# Altium footprint library TO-247-2_0.PcbLib: 1 footprints
Each footprint in its own frame and in the unit in brackets; x right, y up, seen from the top. Pads: shape width x height; smd on the part's side, far side on the other; paste and mask are expansions set on the pad; w line width, h text height; cw(c..) or ccw(c..) is an arc to the next point about the centre after c.
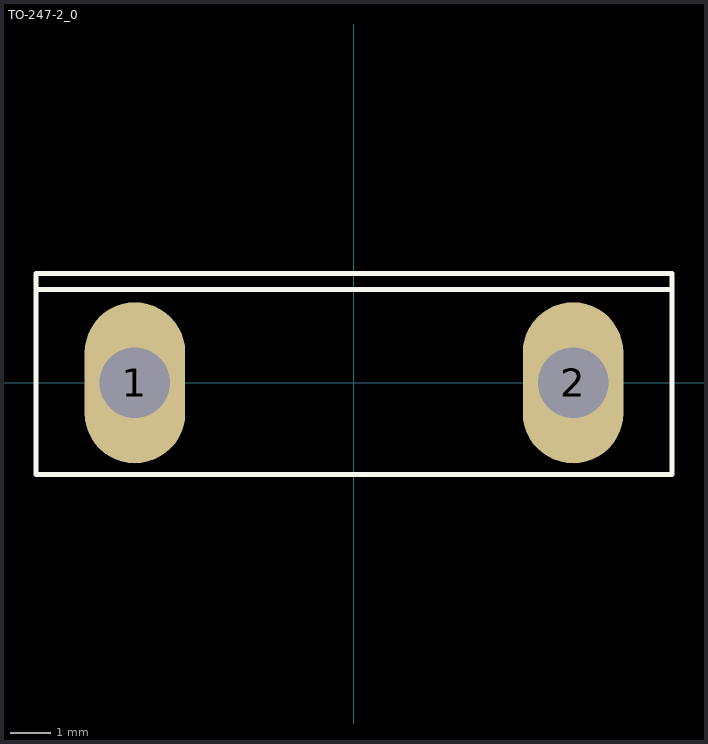
[diagram p0: the footprint, top view; thin cyan lines are the x and y axes]

## TO-247-2_0 [mm]
pads (2):
  oval 2.5x4 hole 1.75: 1(-5.44,0) 2(5.44,0)
Top Overlay:
  lines w0.127: -7.9,2.32 7.9,2.32 ; -7.9,-2.28 7.9,-2.28 7.9,2.72 -7.9,2.72 -7.9,-2.28